# Altium integrated library ChuTrongKhanh.IntLib: 11 symbols
Pins are listed as number, name and electrical type; pins without a type are passive.

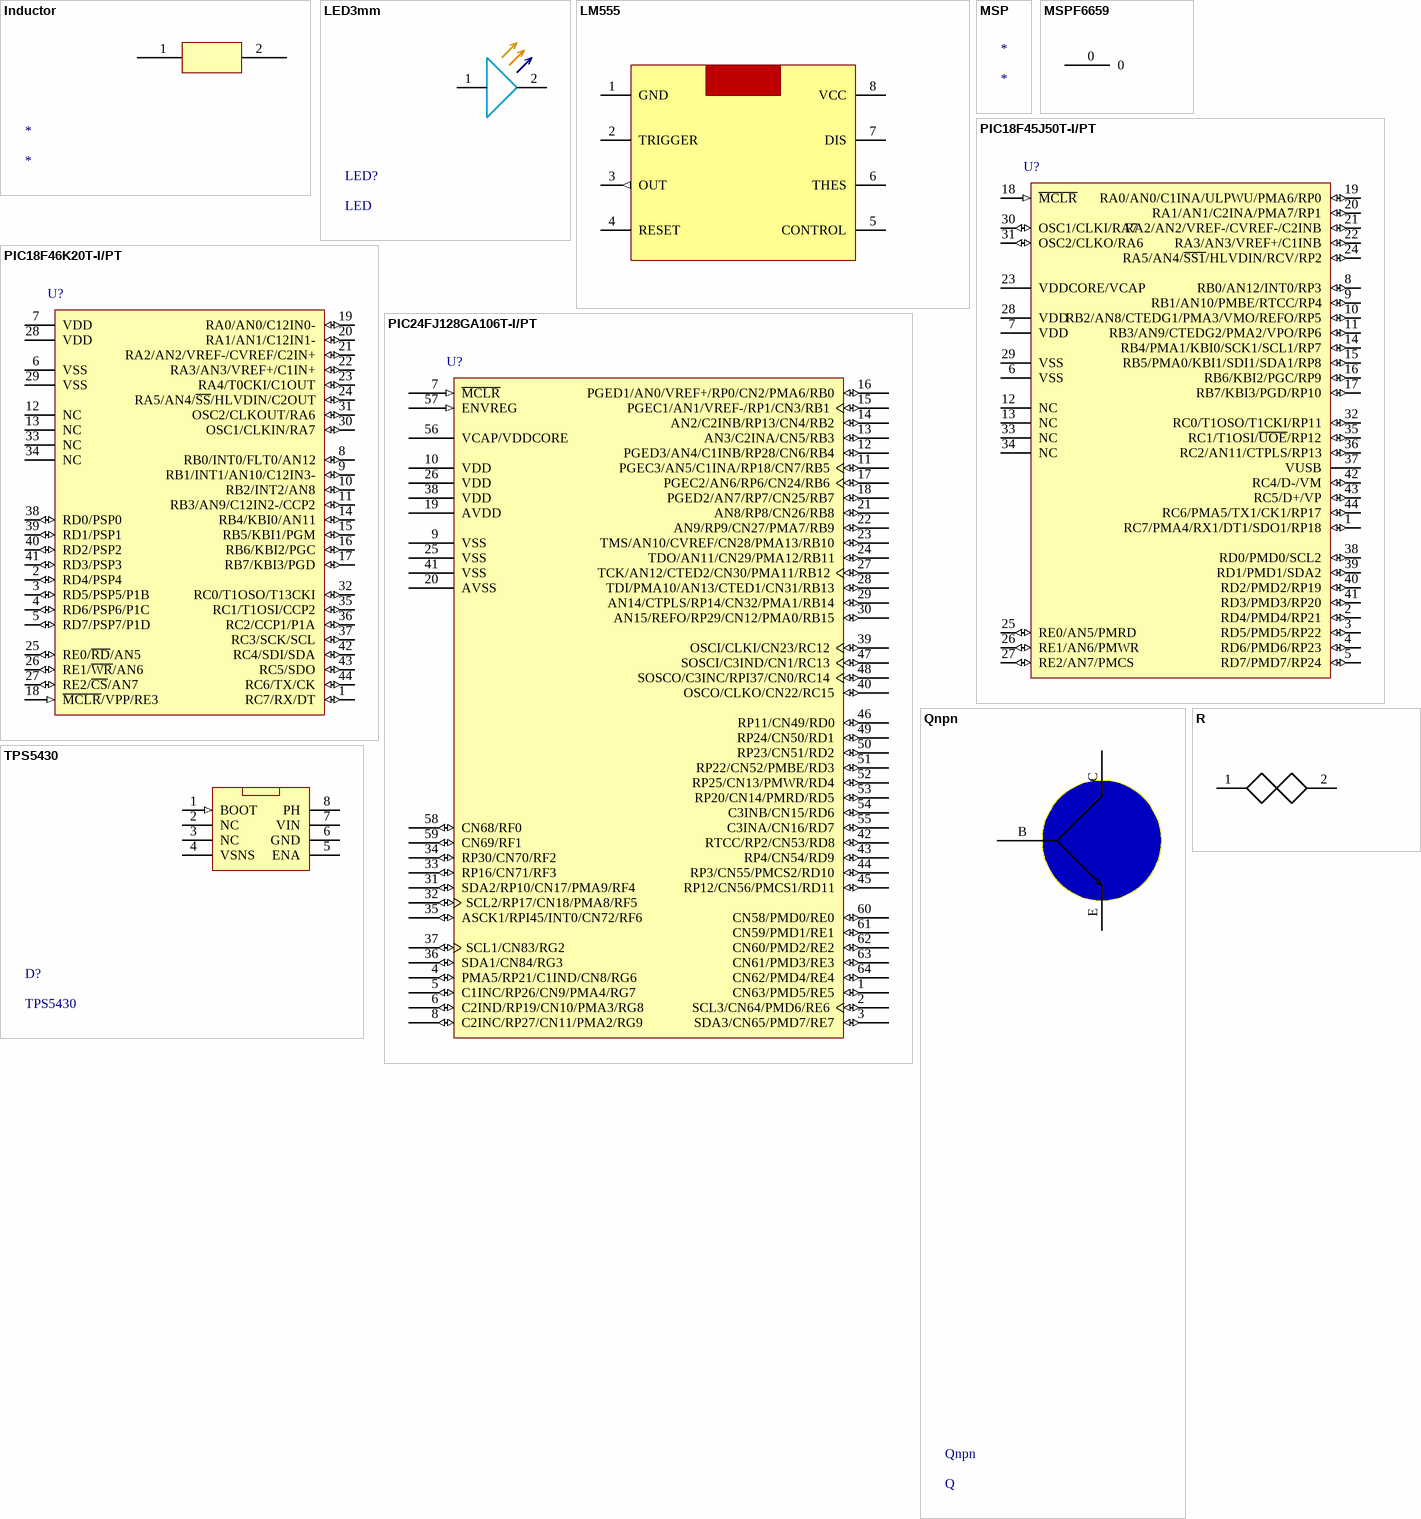
[diagram p0: symbols Inductor to TPS5430]

## Inductor
designator *
pins: 1, 2

## LED3mm
designator LED?, comment LED
pins: 1, 2

## LM555
designator *
footprint SQFP50P1720X2320X245-100N (SQFP, 100-Leads, Body 14.00x14.00mm, Pitch 0.50mm, IPC Medium Density)
pins: 1 GND (power), 2 TRIGGER, 3 OUT (out), 4 RESET (power), 5 CONTROL, 6 THES, 7 DIS, 8 VCC (power)

## MSP
designator *

## MSPF6659
designator U?, comment MSP6659
pins: 0

## PIC18F45J50T-I/PT
designator U?
Low Power, High Performance USB Microcontroller with nanoWatt XLP Technology, 44-pin TQFP, Industrial Temperature, Tape and Reel; FirstPublished: 2-Dec-2009; DatasheetVersion: revC, Oct-2009; PackageVersion: revBB, Aug-2009; PackageReference: TQFP-PT44; Publisher: Altium Limited; PackageDescription: 44-Lead Plastic Thin Quad Flatpack (PT) - 10x10x1mm Body, 2.00mm [TQFP]; Supplier 1: Digi-Key; Supplier Part Number 1: PIC18F45J50T-I/PT-ND; Supplier 2: Newark; Supplier Part Number 2: 98M1825; Code_JEDEC: MS-026; ComponentLink1Description: Datasheet; ComponentLink1URL: http://ww1.microchip.com/downloads/en/DeviceDoc/39931c.pdf; ComponentLink2Description: Packaging Specification; ComponentLink2URL: http://www.microchip.com/stellent/groups/techpub_sg/documents/packagingspec/en012702.pdf; ComponentLink3Description: Microchip.com Home; ComponentLink3URL: http://www.microchip.com/
footprint PIC18F45J50SMD
footprint PIC18F45J50SMD
footprint PIC18F45J50SMD
pins: 1 RC7/PMA4/RX1/DT1/SDO1/RP18 (io), 2 RD4/PMD4/RP21 (io), 3 RD5/PMD5/RP22 (io), 4 RD6/PMD6/RP23 (io), 5 RD7/PMD7/RP24 (io), 6 VSS (power), 7 VDD (power), 8 RB0/AN12/INT0/RP3 (io), 9 RB1/AN10/PMBE/RTCC/RP4 (io), 10 RB2/AN8/CTEDG1/PMA3/VMO/REFO/RP5 (io), 11 RB3/AN9/CTEDG2/PMA2/VPO/RP6 (io), 12 NC, 13 NC, 14 RB4/PMA1/KBI0/SCK1/SCL1/RP7 (io), 15 RB5/PMA0/KBI1/SDI1/SDA1/RP8 (io), 16 RB6/KBI2/PGC/RP9 (io), 17 RB7/KBI3/PGD/RP10 (io), 18 ~{MCLR} (in), 19 RA0/AN0/C1INA/ULPWU/PMA6/RP0 (io), 20 RA1/AN1/C2INA/PMA7/RP1 (io), 21 RA2/AN2/VREF-/CVREF-/C2INB (io), 22 RA3/AN3/VREF+/C1INB (io), 23 VDDCORE/VCAP (power), 24 RA5/AN4/~{SS1}/HLVDIN/RCV/RP2 (io), 25 RE0/AN5/PMRD (io), 26 RE1/AN6/PMWR (io), 27 RE2/AN7/PMCS (io), 28 VDD (power), 29 VSS (power), 30 OSC1/CLKI/RA7 (io), 31 OSC2/CLKO/RA6 (io), 32 RC0/T1OSO/T1CKI/RP11 (io), 33 NC, 34 NC, 35 RC1/T1OSI/~{UOE}/RP12 (io), 36 RC2/AN11/CTPLS/RP13 (io), 37 VUSB (power), 38 RD0/PMD0/SCL2 (io), 39 RD1/PMD1/SDA2 (io), 40 RD2/PMD2/RP19 (io), 41 RD3/PMD3/RP20 (io), 42 RC4/D-/VM (io), 43 RC5/D+/VP (io), 44 RC6/PMA5/TX1/CK1/RP17 (io)

## PIC18F46K20T-I/PT
designator U?
Flash Microcontroller with 10-Bit A/D and nanoWatt Technology, 32K Flash, 44-Pin TQFP, Industrial Temperature Range, Tape and Reel; FirstPublished: 2-Dec-2009; DatasheetVersion: revF, Sep-2009; PackageVersion: revBB, Aug-2009; PackageReference: TQFP-PT44; Publisher: Altium Limited; PackageDescription: 44-Lead Plastic Thin Quad Flatpack (PT) - 10x10x1mm Body, 2.00mm [TQFP]; Supplier 1: Digi-Key; Supplier Part Number 1: PIC18F46K20T-I/PTTR-ND; Supplier 2: Newark; Supplier Part Number 2: 88K6060; Code_JEDEC: MS-026; ComponentLink1Description: Datasheet; ComponentLink1URL: http://ww1.microchip.com/downloads/en/DeviceDoc/41303F.pdf; ComponentLink2Description: Packaging Specification; ComponentLink2URL: http://www.microchip.com/stellent/groups/techpub_sg/documents/packagingspec/en012702.pdf; ComponentLink3Description: Microchip.com Home; ComponentLink3URL: http://www.microchip.com/
footprint TQFP-PT44_N (Thin QFP, 44-Leads, Body 10x10mm, Pitch 0.8mm, IPC Medium Density)
footprint TQFP-PT44_L (Thin QFP, 44-Leads, Body 10x10mm, Pitch 0.8mm, IPC High Density)
footprint TQFP-PT44_M (Thin QFP, 44-Leads, Body 10x10mm, Pitch 0.8mm, IPC Low Density)
pins: 1 RC7/RX/DT (io), 2 RD4/PSP4 (io), 3 RD5/PSP5/P1B (io), 4 RD6/PSP6/P1C (io), 5 RD7/PSP7/P1D (io), 6 VSS (power), 7 VDD (power), 8 RB0/INT0/FLT0/AN12 (io), 9 RB1/INT1/AN10/C12IN3- (io), 10 RB2/INT2/AN8 (io), 11 RB3/AN9/C12IN2-/CCP2 (io), 12 NC, 13 NC, 14 RB4/KBI0/AN11 (io), 15 RB5/KBI1/PGM (io), 16 RB6/KBI2/PGC (io), 17 RB7/KBI3/PGD (io), 18 ~{MCLR}/VPP/RE3 (in), 19 RA0/AN0/C12IN0- (io), 20 RA1/AN1/C12IN1- (io), 21 RA2/AN2/VREF-/CVREF/C2IN+ (io), 22 RA3/AN3/VREF+/C1IN+ (io), 23 RA4/T0CKI/C1OUT (io), 24 RA5/AN4/~{SS}/HLVDIN/C2OUT (io), 25 RE0/~{RD}/AN5 (io), 26 RE1/~{WR}/AN6 (io), 27 RE2/~{CS}/AN7 (io), 28 VDD (power), 29 VSS (power), 30 OSC1/CLKIN/RA7 (io), 31 OSC2/CLKOUT/RA6 (io), 32 RC0/T1OSO/T13CKI (io), 33 NC, 34 NC, 35 RC1/T1OSI/CCP2 (io), 36 RC2/CCP1/P1A (io), 37 RC3/SCK/SCL (io), 38 RD0/PSP0 (io), 39 RD1/PSP1 (io), 40 RD2/PSP2 (io), 41 RD3/PSP3 (io), 42 RC4/SDI/SDA (io), 43 RC5/SDO (io), 44 RC6/TX/CK (io)

## PIC24FJ128GA106T-I/PT
designator U?
General Purpose 16-Bit Flash Microcontroller, 128KB Flash, 16KB SRAM, 64-Pin TQFP, Industrial Temperature, Tape and Reel; FirstPublished: 29-Jan-2009; LatestRevisionDate: 02-Dec-2009; LatestRevisionNote: Updated schematic according to current datasheet revision.; DatasheetVersion: revC, Apr-2009; PackageVersion: revBB, Aug-2009; PackageReference: TQFP-PT64; Publisher: Altium Limited; PackageDescription: 64-Lead Thin Plastic Quad Flat Pack (PT) - 10x10x1mm Body, 2.00mm [TQFP]; Supplier 1: Digi-Key; Supplier Part Number 1: PIC24FJ128GA106T-I/PTTR-ND; Code_JEDEC: MS-026; ComponentLink1Description: Datasheet; ComponentLink1URL: http://ww1.microchip.com/downloads/en/DeviceDoc/39905c.pdf; ComponentLink2Description: Packaging Specification; ComponentLink2URL: http://www.microchip.com/stellent/groups/techpub_sg/documents/packagingspec/en012702.pdf; ComponentLink3Description: Microchip.com Home; ComponentLink3URL: http://www.microchip.com/
footprint TQFP-PT64_N (Thin QFP, 64-Leads, Body 10x10mm, Pitch 0.5mm, IPC Medium Density)
footprint TQFP-PT64_L (Thin QFP, 64-Leads, Body 10x10mm, Pitch 0.5mm, IPC High Density)
footprint TQFP-PT64_M (Thin QFP, 64-Leads, Body 10x10mm, Pitch 0.5mm, IPC Low Density)
footprint PIC24FJ128GA106SMD
pins: 1 CN63/PMD5/RE5 (io), 2 SCL3/CN64/PMD6/RE6 (io), 3 SDA3/CN65/PMD7/RE7 (io), 4 PMA5/RP21/C1IND/CN8/RG6 (io), 5 C1INC/RP26/CN9/PMA4/RG7 (io), 6 C2IND/RP19/CN10/PMA3/RG8 (io), 7 ~{MCLR} (in), 8 C2INC/RP27/CN11/PMA2/RG9 (io), 9 VSS (power), 10 VDD (power), 11 PGEC3/AN5/C1INA/RP18/CN7/RB5 (io), 12 PGED3/AN4/C1INB/RP28/CN6/RB4 (io), 13 AN3/C2INA/CN5/RB3 (io), 14 AN2/C2INB/RP13/CN4/RB2 (io), 15 PGEC1/AN1/VREF-/RP1/CN3/RB1 (io), 16 PGED1/AN0/VREF+/RP0/CN2/PMA6/RB0 (io), 17 PGEC2/AN6/RP6/CN24/RB6 (io), 18 PGED2/AN7/RP7/CN25/RB7 (io), 19 AVDD (power), 20 AVSS (power), 21 AN8/RP8/CN26/RB8 (io), 22 AN9/RP9/CN27/PMA7/RB9 (io), 23 TMS/AN10/CVREF/CN28/PMA13/RB10 (io), 24 TDO/AN11/CN29/PMA12/RB11 (io), 25 VSS (power), 26 VDD (power), 27 TCK/AN12/CTED2/CN30/PMA11/RB12 (io), 28 TDI/PMA10/AN13/CTED1/CN31/RB13 (io), 29 AN14/CTPLS/RP14/CN32/PMA1/RB14 (io), 30 AN15/REFO/RP29/CN12/PMA0/RB15 (io), 31 SDA2/RP10/CN17/PMA9/RF4 (io), 32 SCL2/RP17/CN18/PMA8/RF5 (io), 33 RP16/CN71/RF3 (io), 34 RP30/CN70/RF2 (io), 35 ASCK1/RPI45/INT0/CN72/RF6 (io), 36 SDA1/CN84/RG3 (io), 37 SCL1/CN83/RG2 (io), 38 VDD (power), 39 OSCI/CLKI/CN23/RC12 (io), 40 OSCO/CLKO/CN22/RC15 (io), 41 VSS (power), 42 RTCC/RP2/CN53/RD8 (io), 43 RP4/CN54/RD9 (io), 44 RP3/CN55/PMCS2/RD10 (io), 45 RP12/CN56/PMCS1/RD11 (io), 46 RP11/CN49/RD0 (io), 47 SOSCI/C3IND/CN1/RC13 (io), 48 SOSCO/C3INC/RPI37/CN0/RC14 (io), 49 RP24/CN50/RD1 (io), 50 RP23/CN51/RD2 (io), 51 RP22/CN52/PMBE/RD3 (io), 52 RP25/CN13/PMWR/RD4 (io), 53 RP20/CN14/PMRD/RD5 (io), 54 C3INB/CN15/RD6 (io), 55 C3INA/CN16/RD7 (io), 56 VCAP/VDDCORE (power), 57 ENVREG (in), 58 CN68/RF0 (io), 59 CN69/RF1 (io), 60 CN58/PMD0/RE0 (io), 61 CN59/PMD1/RE1 (io), 62 CN60/PMD2/RE2 (io), 63 CN61/PMD3/RE3 (io), 64 CN62/PMD4/RE4 (io)

## Qnpn
designator Qnpn, comment Q
pins: B, C, E

## R
designator R?
R; R: 1K
pins: 1, 2

## TPS5430
designator D?
footprint TPS5430 (SOIC, 8-Leads, Body 4.98x3.99mm, Pitch 1.27mm, IPC Medium Density)
pins: 1 BOOT (in), 2 NC, 3 NC, 4 VSNS, 5 ENA, 6 GND (power), 7 VIN (power), 8 PH